# Altium integrated library Maxim Sensors.IntLib: 1172 symbols (part 54 of 61)
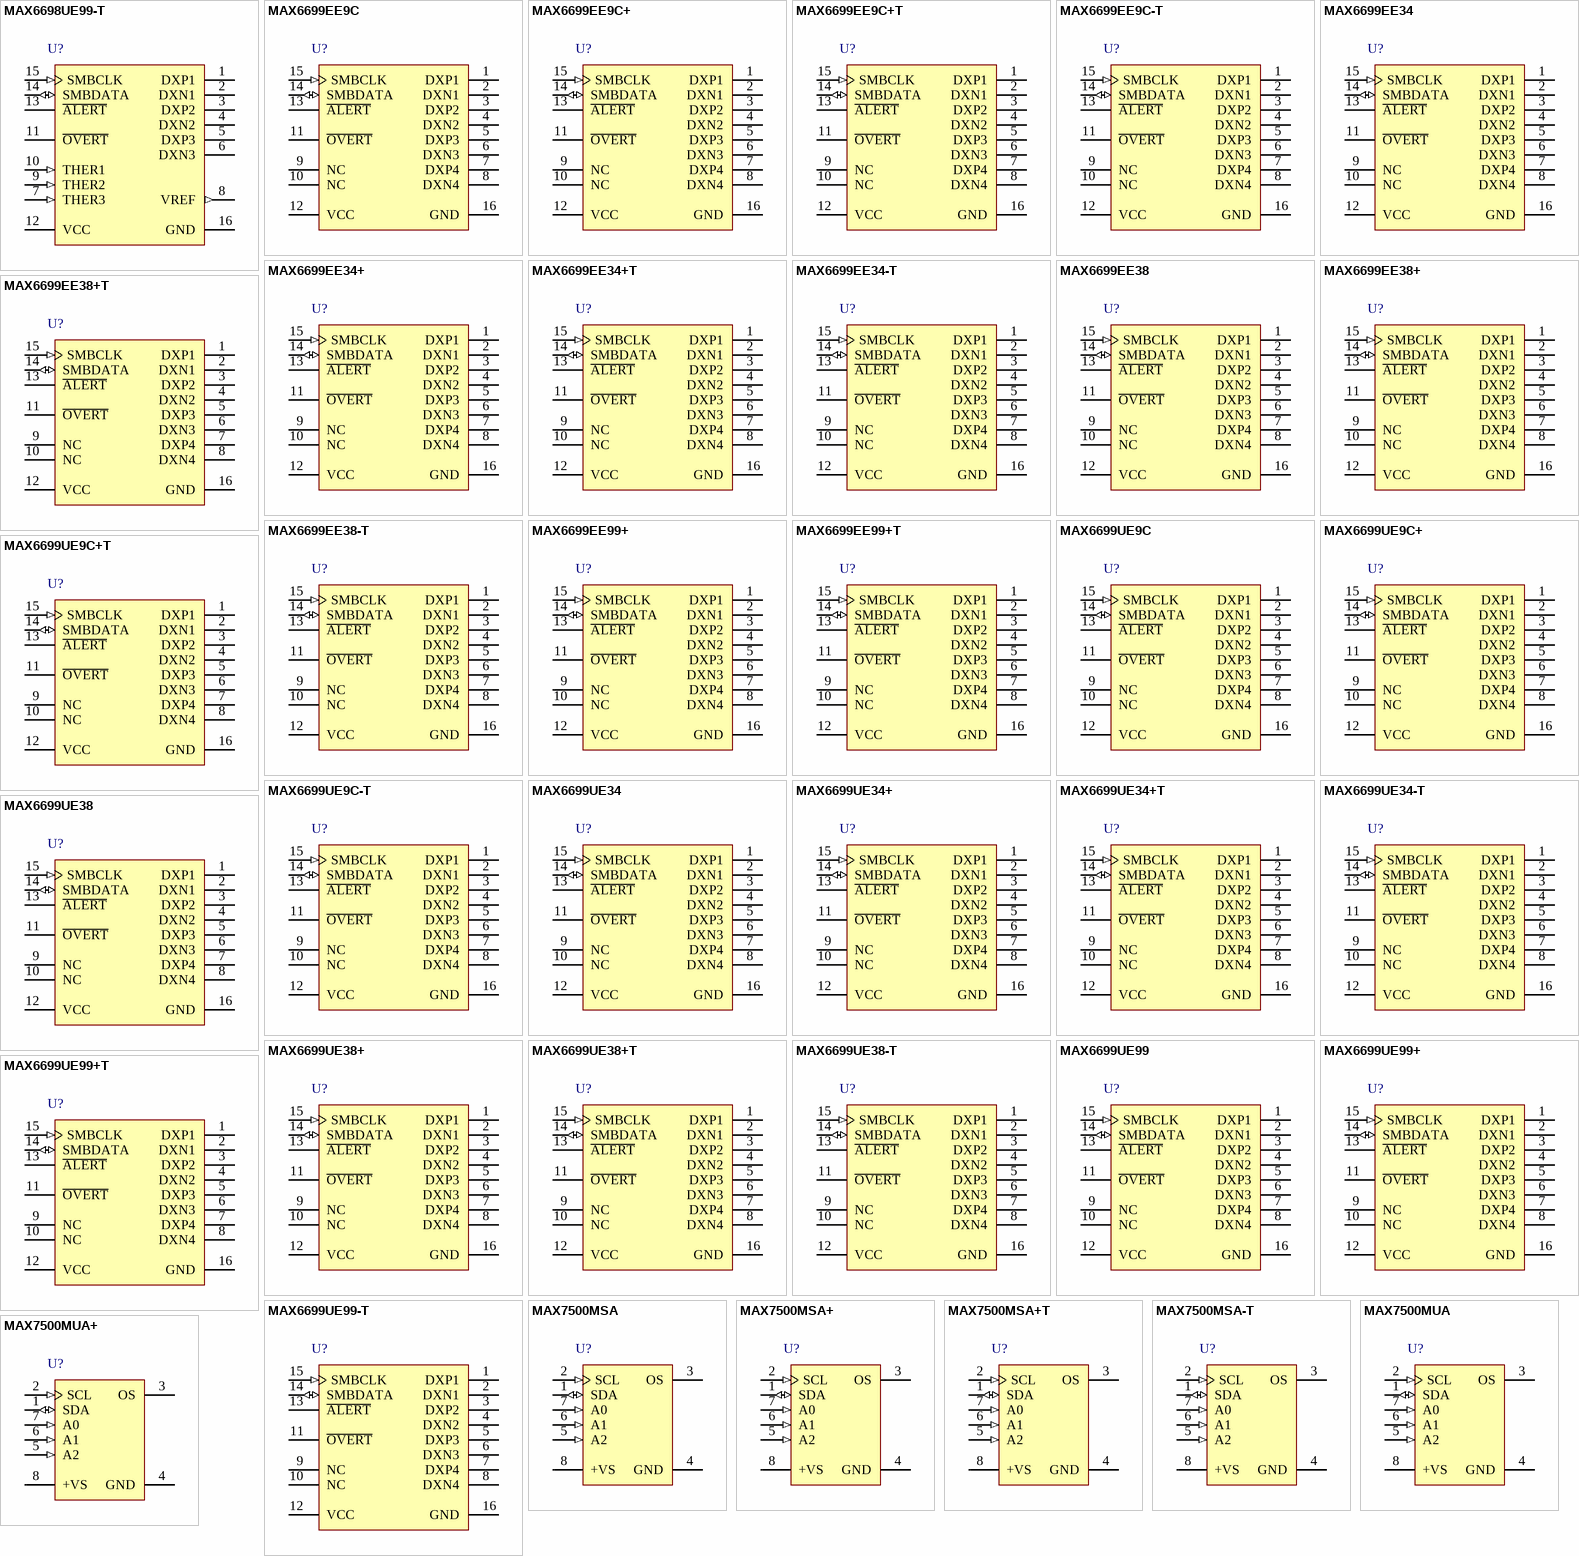
[diagram p86: symbols MAX6698UE99-T to MAX7500MUA+]

## MAX6699UE99
designator U?
Five-Channel Temperature Monitor, 11 Bits Temperature Resolution, -40 to 125 degC, 16-Pin SOP (U16-1); Generic Part Number: MAX6699; PartNumber: MAX6699UE99; Alarm Output: Alert, Overt; Functions: Dual Temperature Alarms, Multi-Channel Temperature Monitor ,Remote & Local Sensor; Interface: 2-Wire/I2C/SMBus; Parasite Pwr.: No; DatasheetVersion: Rev. 2; PackageVersion: Rev. L, 07/2010; PackageReference: U16-1; PackageDescription: 16-Pin Thin Shrink Small-Outline Package (U16-1), Body 5 x 4.4 mm, Pitch 0.65 mm; Supplier 1: Mouser; Supplier Part Number 1: N/A; Mounting Technology: Surface Mount; Code_JEDEC: MO-153; ComponentLink1Description: Manufacturer URL; ComponentLink1URL: http://www.maximintegrated.com/; ComponentLink2Description: Datasheet; ComponentLink2URL: http://datasheets.maximintegrated.com/en/ds/MAX6699.pdf; ComponentLink3Description: Package Specification; ComponentLink3URL: http://pdfserv.maximintegrated.com/package_dwgs/21-0066.PDF
footprint MAXM-U16-1_N (SOP, 16-Leads, Body 5x4.4mm, Pitch 0.65mm, IPC Medium Density)
footprint MAXM-U16-1_L (SOP, 16-Leads, Body 5x4.4mm, Pitch 0.65mm, IPC High Density)
footprint MAXM-U16-1_M (SOP, 16-Leads, Body 5x4.4mm, Pitch 0.65mm, IPC Low Density)
pins: 1 DXP1 "Combined Current Source and A/D Positive Input for Channel 1 Remote Diode. Connect to the anode of a remote-diode-connected temperature-sensing transistor. Leave floating or connect to VCC if no remote diode is used. Place a (See Datasheet)", 2 DXN1 "Cathode Input for Channel 1 Remote Diode. Connect the cathode of the channel 1 remote-diodeconnected transistor to DXN1.", 3 DXP2 "Combined Current Source and A/D Positive Input for Channel 2 Remote Diode. Connect to the anode of a remote-diode-connected temperature-sensing transistor. Leave floating or connect to VCC if no remote diode is used. Place a (See Datasheet)", 4 DXN2 "Cathode Input for Channel 2 Remote Diode. Connect the cathode of the channel 2 remote-diodeconnected transistor to DXN2.", 5 DXP3 "Combined Current Source and A/D Positive Input for Channel 3 Remote Diode. Connect to the anode of a remote-diode-connected temperature-sensing transistor. Leave floating or connect to VCC if no remote diode is used. Place a (See Datasheet)", 6 DXN3 "Cathode Input for Channel 3 Remote Diode. Connect the cathode of the channel 1 remote-diodeconnected transistor to DXN3.", 7 DXP4 "Combined Current Source and A/D Positive Input for Channel 4 Remote Diode. Connect to the anode of a remote-diode-connected temperature-sensing transistor. Leave floating or connect to VCC if no remote diode is used. Place a (See Datasheet)", 8 DXN4 "Cathode Input for Channel 4 Remote Diode. Connect the cathode of the channel 1 remote-diodeconnected transistor to DXN4.", 9 NC "No Connection. Must be connected to ground.", 10 NC "No Connection. Must be connected to ground.", 11 ~{OVERT} (oc) "Overtemperature Active-Low, Open-Drain Output. O\V\E\R\T\ asserts low when the temperature of channels 1 and 4 exceeds the programmed threshold limit.", 12 VCC (power) "Supply Voltage Input. Bypass to GND with a 0.1uF capacitor.", 13 ~{ALERT} (oc) "SMBus Alert (Interrupt), Active-Low, Open-Drain Output. A\L\E\R\T\ asserts low when the temperature of any channel exceeds the programmed A\L\E\R\T\ threshold.", 14 SMBDATA (io) "SMBus Serial-Data Input/Output. Connect to a pullup resistor.", 15 SMBCLK (in) "SMBus Serial-Clock Input. Connect to a pullup resistor.", 16 GND (power) "Ground"

## MAX6699UE99+
designator U?
Five-Channel Temperature Monitor, 11 Bits Temperature Resolution, -40 to 125 degC, 16-Pin SOP (U16+1), Pb-Free; Generic Part Number: MAX6699; PartNumber: MAX6699UE99+; Alarm Output: Alert, Overt; Functions: Dual Temperature Alarms, Multi-Channel Temperature Monitor ,Remote & Local Sensor; Interface: 2-Wire/I2C/SMBus; Parasite Pwr.: No; DatasheetVersion: Rev. 2; PackageVersion: Rev. L, 07/2010; PackageReference: U16+1; PackageDescription: 16-Pin Thin Shrink Small-Outline Package (U16+1), Body 5 x 4.4 mm, Pitch 0.65 mm; Supplier 1: Digi-Key; Supplier Part Number 1: MAX6699UE99+-ND; Supplier 2: Mouser; Supplier Part Number 2: 700-MAX6699UE99+; Mounting Technology: Surface Mount; Code_JEDEC: MO-153; ComponentLink1Description: Manufacturer URL; ComponentLink1URL: http://www.maximintegrated.com/; ComponentLink2Description: Datasheet; ComponentLink2URL: http://datasheets.maximintegrated.com/en/ds/MAX6699.pdf; ComponentLink3Description: Package Specification; ComponentLink3URL: http://pdfserv.maximintegrated.com/package_dwgs/21-0066.PDF
footprint MAXM-U16+1_N (SOP, 16-Leads, Body 5x4.4mm, Pitch 0.65mm, IPC Medium Density)
footprint MAXM-U16+1_L (SOP, 16-Leads, Body 5x4.4mm, Pitch 0.65mm, IPC High Density)
footprint MAXM-U16+1_M (SOP, 16-Leads, Body 5x4.4mm, Pitch 0.65mm, IPC Low Density)
pins: 1 DXP1 "Combined Current Source and A/D Positive Input for Channel 1 Remote Diode. Connect to the anode of a remote-diode-connected temperature-sensing transistor. Leave floating or connect to VCC if no remote diode is used. Place a (See Datasheet)", 2 DXN1 "Cathode Input for Channel 1 Remote Diode. Connect the cathode of the channel 1 remote-diodeconnected transistor to DXN1.", 3 DXP2 "Combined Current Source and A/D Positive Input for Channel 2 Remote Diode. Connect to the anode of a remote-diode-connected temperature-sensing transistor. Leave floating or connect to VCC if no remote diode is used. Place a (See Datasheet)", 4 DXN2 "Cathode Input for Channel 2 Remote Diode. Connect the cathode of the channel 2 remote-diodeconnected transistor to DXN2.", 5 DXP3 "Combined Current Source and A/D Positive Input for Channel 3 Remote Diode. Connect to the anode of a remote-diode-connected temperature-sensing transistor. Leave floating or connect to VCC if no remote diode is used. Place a (See Datasheet)", 6 DXN3 "Cathode Input for Channel 3 Remote Diode. Connect the cathode of the channel 1 remote-diodeconnected transistor to DXN3.", 7 DXP4 "Combined Current Source and A/D Positive Input for Channel 4 Remote Diode. Connect to the anode of a remote-diode-connected temperature-sensing transistor. Leave floating or connect to VCC if no remote diode is used. Place a (See Datasheet)", 8 DXN4 "Cathode Input for Channel 4 Remote Diode. Connect the cathode of the channel 1 remote-diodeconnected transistor to DXN4.", 9 NC "No Connection. Must be connected to ground.", 10 NC "No Connection. Must be connected to ground.", 11 ~{OVERT} (oc) "Overtemperature Active-Low, Open-Drain Output. O\V\E\R\T\ asserts low when the temperature of channels 1 and 4 exceeds the programmed threshold limit.", 12 VCC (power) "Supply Voltage Input. Bypass to GND with a 0.1uF capacitor.", 13 ~{ALERT} (oc) "SMBus Alert (Interrupt), Active-Low, Open-Drain Output. A\L\E\R\T\ asserts low when the temperature of any channel exceeds the programmed A\L\E\R\T\ threshold.", 14 SMBDATA (io) "SMBus Serial-Data Input/Output. Connect to a pullup resistor.", 15 SMBCLK (in) "SMBus Serial-Clock Input. Connect to a pullup resistor.", 16 GND (power) "Ground"

## MAX6699UE99+T
designator U?
Five-Channel Temperature Monitor, 11 Bits Temperature Resolution, -40 to 125 degC, 16-Pin SOP (U16+1), Pb-Free, Tape and Reel; Generic Part Number: MAX6699; PartNumber: MAX6699UE99+T; Alarm Output: Alert, Overt; Functions: Dual Temperature Alarms, Multi-Channel Temperature Monitor ,Remote & Local Sensor; Interface: 2-Wire/I2C/SMBus; Parasite Pwr.: No; DatasheetVersion: Rev. 2; PackageVersion: Rev. L, 07/2010; PackageReference: U16+1; PackageDescription: 16-Pin Thin Shrink Small-Outline Package (U16+1), Body 5 x 4.4 mm, Pitch 0.65 mm; Supplier 1: Digi-Key; Supplier Part Number 1: MAX6699UE99+T-ND; Supplier 2: Mouser; Supplier Part Number 2: 700-MAX6699UE99+T; Packing: Tape and Reel; Mounting Technology: Surface Mount; Code_JEDEC: MO-153; ComponentLink1Description: Manufacturer URL; ComponentLink1URL: http://www.maximintegrated.com/; ComponentLink2Description: Datasheet; ComponentLink2URL: http://datasheets.maximintegrated.com/en/ds/MAX6699.pdf; ComponentLink3Description: Package Specification; ComponentLink3URL: http://pdfserv.maximintegrated.com/package_dwgs/21-0066.PDF
footprint MAXM-U16+1_N (SOP, 16-Leads, Body 5x4.4mm, Pitch 0.65mm, IPC Medium Density)
footprint MAXM-U16+1_L (SOP, 16-Leads, Body 5x4.4mm, Pitch 0.65mm, IPC High Density)
footprint MAXM-U16+1_M (SOP, 16-Leads, Body 5x4.4mm, Pitch 0.65mm, IPC Low Density)
pins: 1 DXP1 "Combined Current Source and A/D Positive Input for Channel 1 Remote Diode. Connect to the anode of a remote-diode-connected temperature-sensing transistor. Leave floating or connect to VCC if no remote diode is used. Place a (See Datasheet)", 2 DXN1 "Cathode Input for Channel 1 Remote Diode. Connect the cathode of the channel 1 remote-diodeconnected transistor to DXN1.", 3 DXP2 "Combined Current Source and A/D Positive Input for Channel 2 Remote Diode. Connect to the anode of a remote-diode-connected temperature-sensing transistor. Leave floating or connect to VCC if no remote diode is used. Place a (See Datasheet)", 4 DXN2 "Cathode Input for Channel 2 Remote Diode. Connect the cathode of the channel 2 remote-diodeconnected transistor to DXN2.", 5 DXP3 "Combined Current Source and A/D Positive Input for Channel 3 Remote Diode. Connect to the anode of a remote-diode-connected temperature-sensing transistor. Leave floating or connect to VCC if no remote diode is used. Place a (See Datasheet)", 6 DXN3 "Cathode Input for Channel 3 Remote Diode. Connect the cathode of the channel 1 remote-diodeconnected transistor to DXN3.", 7 DXP4 "Combined Current Source and A/D Positive Input for Channel 4 Remote Diode. Connect to the anode of a remote-diode-connected temperature-sensing transistor. Leave floating or connect to VCC if no remote diode is used. Place a (See Datasheet)", 8 DXN4 "Cathode Input for Channel 4 Remote Diode. Connect the cathode of the channel 1 remote-diodeconnected transistor to DXN4.", 9 NC "No Connection. Must be connected to ground.", 10 NC "No Connection. Must be connected to ground.", 11 ~{OVERT} (oc) "Overtemperature Active-Low, Open-Drain Output. O\V\E\R\T\ asserts low when the temperature of channels 1 and 4 exceeds the programmed threshold limit.", 12 VCC (power) "Supply Voltage Input. Bypass to GND with a 0.1uF capacitor.", 13 ~{ALERT} (oc) "SMBus Alert (Interrupt), Active-Low, Open-Drain Output. A\L\E\R\T\ asserts low when the temperature of any channel exceeds the programmed A\L\E\R\T\ threshold.", 14 SMBDATA (io) "SMBus Serial-Data Input/Output. Connect to a pullup resistor.", 15 SMBCLK (in) "SMBus Serial-Clock Input. Connect to a pullup resistor.", 16 GND (power) "Ground"

## MAX6699UE99-T
designator U?
Five-Channel Temperature Monitor, 11 Bits Temperature Resolution, -40 to 125 degC, 16-Pin SOP (U16-1), Tape and Reel; Generic Part Number: MAX6699; PartNumber: MAX6699UE99-T; Alarm Output: Alert, Overt; Functions: Dual Temperature Alarms, Multi-Channel Temperature Monitor ,Remote & Local Sensor; Interface: 2-Wire/I2C/SMBus; Parasite Pwr.: No; DatasheetVersion: Rev. 2; PackageVersion: Rev. L, 07/2010; PackageReference: U16-1; PackageDescription: 16-Pin Thin Shrink Small-Outline Package (U16-1), Body 5 x 4.4 mm, Pitch 0.65 mm; Supplier 1: Mouser; Supplier Part Number 1: N/A; Packing: Tape and Reel; Mounting Technology: Surface Mount; Code_JEDEC: MO-153; ComponentLink1Description: Manufacturer URL; ComponentLink1URL: http://www.maximintegrated.com/; ComponentLink2Description: Datasheet; ComponentLink2URL: http://datasheets.maximintegrated.com/en/ds/MAX6699.pdf; ComponentLink3Description: Package Specification; ComponentLink3URL: http://pdfserv.maximintegrated.com/package_dwgs/21-0066.PDF
footprint MAXM-U16-1_N (SOP, 16-Leads, Body 5x4.4mm, Pitch 0.65mm, IPC Medium Density)
footprint MAXM-U16-1_L (SOP, 16-Leads, Body 5x4.4mm, Pitch 0.65mm, IPC High Density)
footprint MAXM-U16-1_M (SOP, 16-Leads, Body 5x4.4mm, Pitch 0.65mm, IPC Low Density)
pins: 1 DXP1 "Combined Current Source and A/D Positive Input for Channel 1 Remote Diode. Connect to the anode of a remote-diode-connected temperature-sensing transistor. Leave floating or connect to VCC if no remote diode is used. Place a (See Datasheet)", 2 DXN1 "Cathode Input for Channel 1 Remote Diode. Connect the cathode of the channel 1 remote-diodeconnected transistor to DXN1.", 3 DXP2 "Combined Current Source and A/D Positive Input for Channel 2 Remote Diode. Connect to the anode of a remote-diode-connected temperature-sensing transistor. Leave floating or connect to VCC if no remote diode is used. Place a (See Datasheet)", 4 DXN2 "Cathode Input for Channel 2 Remote Diode. Connect the cathode of the channel 2 remote-diodeconnected transistor to DXN2.", 5 DXP3 "Combined Current Source and A/D Positive Input for Channel 3 Remote Diode. Connect to the anode of a remote-diode-connected temperature-sensing transistor. Leave floating or connect to VCC if no remote diode is used. Place a (See Datasheet)", 6 DXN3 "Cathode Input for Channel 3 Remote Diode. Connect the cathode of the channel 1 remote-diodeconnected transistor to DXN3.", 7 DXP4 "Combined Current Source and A/D Positive Input for Channel 4 Remote Diode. Connect to the anode of a remote-diode-connected temperature-sensing transistor. Leave floating or connect to VCC if no remote diode is used. Place a (See Datasheet)", 8 DXN4 "Cathode Input for Channel 4 Remote Diode. Connect the cathode of the channel 1 remote-diodeconnected transistor to DXN4.", 9 NC "No Connection. Must be connected to ground.", 10 NC "No Connection. Must be connected to ground.", 11 ~{OVERT} (oc) "Overtemperature Active-Low, Open-Drain Output. O\V\E\R\T\ asserts low when the temperature of channels 1 and 4 exceeds the programmed threshold limit.", 12 VCC (power) "Supply Voltage Input. Bypass to GND with a 0.1uF capacitor.", 13 ~{ALERT} (oc) "SMBus Alert (Interrupt), Active-Low, Open-Drain Output. A\L\E\R\T\ asserts low when the temperature of any channel exceeds the programmed A\L\E\R\T\ threshold.", 14 SMBDATA (io) "SMBus Serial-Data Input/Output. Connect to a pullup resistor.", 15 SMBCLK (in) "SMBus Serial-Clock Input. Connect to a pullup resistor.", 16 GND (power) "Ground"

## MAX7500MSA
designator U?
Digital Temperature Sensor with Bus Lock-up Protection, -55 to 125 degC, 8-Pin SOIC (S8-2); Generic Part Number: MAX7500; PartNumber: MAX7500MSA; Interface: 2-Wire/I2C/SMBus; Multi Droppable: Yes; Parasite Pwr.: No; DatasheetVersion: Rev. 4; PackageVersion: Rev. D, 10/2012; PackageReference: S8-2; PackageDescription: 8-Pin Small-Outline IC, Narrow (0.15in) (S8-2), Body 4.90 x 3.90 mm, Pitch 1.27 mm; Supplier 1: Mouser; Supplier Part Number 1: N/A; Mounting Technology: Surface Mount; Code_JEDEC: MS012; ComponentLink1Description: Manufacturer URL; ComponentLink1URL: http://www.maximintegrated.com/; ComponentLink2Description: Datasheet; ComponentLink2URL: http://datasheets.maximintegrated.com/en/ds/MAX7500-MAX7504.pdf; ComponentLink3Description: Package Specification; ComponentLink3URL: http://pdfserv.maximintegrated.com/package_dwgs/21-0041.PDF
footprint MAXM-S8-2_N (SOIC, 8-Leads, Body 4.90x3.90mm, Pitch 1.27mm, IPC Medium Density)
footprint MAXM-S8-2_L (SOIC, 8-Leads, Body 4.90x3.90mm, Pitch 1.27mm, IPC High Density)
footprint MAXM-S8-2_M (SOIC, 8-Leads, Body 4.90x3.90mm, Pitch 1.27mm, IPC Low Density)
pins: 1 SDA (io) "Serial Data Input/Output Line. Open drain. Connect SDA to a pullup resistor.", 2 SCL (in) "Serial Data Clock Input. Open drain. Connect SCL to a pullup resistor.", 3 OS (oc) "Overtemperature Shutdown Output. Open drain. Connect OS to a pullup resistor.", 4 GND (power) "Ground", 5 A2 (in) "2-Wire Interface Address Input. Connect A2 to GND or +VS to set the desired I2C bus address. Do not leave unconnected (see Table 1).", 6 A1 (in) "2-Wire Interface Address Input. Connect A1 to GND or +VS to set the desired I2C bus address. Do not leave unconnected (see Table 1).", 7 A0 (in) "2-Wire Interface Address Input. Connect A0 to GND or +VS to set the desired I2C bus address. Do not leave unconnected (see Table 1).", 8 +VS (power) "Positive Supply Voltage Input. Bypass to GND with a 0.1uF bypass capacitor."

## MAX7500MSA+
designator U?
Digital Temperature Sensor with Bus Lock-up Protection, -55 to 125 degC, 8-Pin SOIC (S8+2), Pb-Free; Generic Part Number: MAX7500; PartNumber: MAX7500MSA+; Interface: 2-Wire/I2C/SMBus; Multi Droppable: Yes; Parasite Pwr.: No; DatasheetVersion: Rev. 4; PackageVersion: Rev. D, 10/2012; PackageReference: S8+2; PackageDescription: 8-Pin Small-Outline IC, Narrow (0.15in) (S8+2), Body 4.90 x 3.90 mm, Pitch 1.27 mm; Supplier 1: Digi-Key; Supplier Part Number 1: MAX7500MSA+-ND; Supplier 2: Mouser; Supplier Part Number 2: 700-MAX7500MSA; Mounting Technology: Surface Mount; Code_JEDEC: MS012; ComponentLink1Description: Manufacturer URL; ComponentLink1URL: http://www.maximintegrated.com/; ComponentLink2Description: Datasheet; ComponentLink2URL: http://datasheets.maximintegrated.com/en/ds/MAX7500-MAX7504.pdf; ComponentLink3Description: Package Specification; ComponentLink3URL: http://pdfserv.maximintegrated.com/package_dwgs/21-0041.PDF
footprint MAXM-S8+2_N (SOIC, 8-Leads, Body 4.90x3.90mm, Pitch 1.27mm, IPC Medium Density)
footprint MAXM-S8+2_L (SOIC, 8-Leads, Body 4.90x3.90mm, Pitch 1.27mm, IPC High Density)
footprint MAXM-S8+2_M (SOIC, 8-Leads, Body 4.90x3.90mm, Pitch 1.27mm, IPC Low Density)
pins: 1 SDA (io) "Serial Data Input/Output Line. Open drain. Connect SDA to a pullup resistor.", 2 SCL (in) "Serial Data Clock Input. Open drain. Connect SCL to a pullup resistor.", 3 OS (oc) "Overtemperature Shutdown Output. Open drain. Connect OS to a pullup resistor.", 4 GND (power) "Ground", 5 A2 (in) "2-Wire Interface Address Input. Connect A2 to GND or +VS to set the desired I2C bus address. Do not leave unconnected (see Table 1).", 6 A1 (in) "2-Wire Interface Address Input. Connect A1 to GND or +VS to set the desired I2C bus address. Do not leave unconnected (see Table 1).", 7 A0 (in) "2-Wire Interface Address Input. Connect A0 to GND or +VS to set the desired I2C bus address. Do not leave unconnected (see Table 1).", 8 +VS (power) "Positive Supply Voltage Input. Bypass to GND with a 0.1uF bypass capacitor."

## MAX7500MSA+T
designator U?
Digital Temperature Sensor with Bus Lock-up Protection, -55 to 125 degC, 8-Pin SOIC (S8+2), Pb-Free, Tape and Reel; Generic Part Number: MAX7500; PartNumber: MAX7500MSA+T; Interface: 2-Wire/I2C/SMBus; Multi Droppable: Yes; Parasite Pwr.: No; DatasheetVersion: Rev. 4; PackageVersion: Rev. D, 10/2012; PackageReference: S8+2; PackageDescription: 8-Pin Small-Outline IC, Narrow (0.15in) (S8+2), Body 4.90 x 3.90 mm, Pitch 1.27 mm; Supplier 1: Digi-Key; Supplier Part Number 1: MAX7500MSA+TTR-ND; Supplier 2: Digi-Key; Supplier Part Number 2: MAX7500MSA+TCT-ND; Supplier 3: Digi-Key; Supplier Part Number 3: MAX7500MSA+TDKR-ND; Supplier 4: Mouser; Supplier Part Number 4: 700-MAX7500MSAT; Packing: Tape and Reel; Mounting Technology: Surface Mount; Code_JEDEC: MS012; ComponentLink1Description: Manufacturer URL; ComponentLink1URL: http://www.maximintegrated.com/; ComponentLink2Description: Datasheet; ComponentLink2URL: http://datasheets.maximintegrated.com/en/ds/MAX7500-MAX7504.pdf; ComponentLink3Description: Package Specification; ComponentLink3URL: http://pdfserv.maximintegrated.com/package_dwgs/21-0041.PDF
footprint MAXM-S8+2_N (SOIC, 8-Leads, Body 4.90x3.90mm, Pitch 1.27mm, IPC Medium Density)
footprint MAXM-S8+2_L (SOIC, 8-Leads, Body 4.90x3.90mm, Pitch 1.27mm, IPC High Density)
footprint MAXM-S8+2_M (SOIC, 8-Leads, Body 4.90x3.90mm, Pitch 1.27mm, IPC Low Density)
pins: 1 SDA (io) "Serial Data Input/Output Line. Open drain. Connect SDA to a pullup resistor.", 2 SCL (in) "Serial Data Clock Input. Open drain. Connect SCL to a pullup resistor.", 3 OS (oc) "Overtemperature Shutdown Output. Open drain. Connect OS to a pullup resistor.", 4 GND (power) "Ground", 5 A2 (in) "2-Wire Interface Address Input. Connect A2 to GND or +VS to set the desired I2C bus address. Do not leave unconnected (see Table 1).", 6 A1 (in) "2-Wire Interface Address Input. Connect A1 to GND or +VS to set the desired I2C bus address. Do not leave unconnected (see Table 1).", 7 A0 (in) "2-Wire Interface Address Input. Connect A0 to GND or +VS to set the desired I2C bus address. Do not leave unconnected (see Table 1).", 8 +VS (power) "Positive Supply Voltage Input. Bypass to GND with a 0.1uF bypass capacitor."

## MAX7500MSA-T
designator U?
Digital Temperature Sensor with Bus Lock-up Protection, -55 to 125 degC, 8-Pin SOIC (S8-2), Tape and Reel; Generic Part Number: MAX7500; PartNumber: MAX7500MSA-T; Interface: 2-Wire/I2C/SMBus; Multi Droppable: Yes; Parasite Pwr.: No; DatasheetVersion: Rev. 4; PackageVersion: Rev. D, 10/2012; PackageReference: S8-2; PackageDescription: 8-Pin Small-Outline IC, Narrow (0.15in) (S8-2), Body 4.90 x 3.90 mm, Pitch 1.27 mm; Supplier 1: Mouser; Supplier Part Number 1: N/A; Packing: Tape and Reel; Mounting Technology: Surface Mount; Code_JEDEC: MS012; ComponentLink1Description: Manufacturer URL; ComponentLink1URL: http://www.maximintegrated.com/; ComponentLink2Description: Datasheet; ComponentLink2URL: http://datasheets.maximintegrated.com/en/ds/MAX7500-MAX7504.pdf; ComponentLink3Description: Package Specification; ComponentLink3URL: http://pdfserv.maximintegrated.com/package_dwgs/21-0041.PDF
footprint MAXM-S8-2_N (SOIC, 8-Leads, Body 4.90x3.90mm, Pitch 1.27mm, IPC Medium Density)
footprint MAXM-S8-2_L (SOIC, 8-Leads, Body 4.90x3.90mm, Pitch 1.27mm, IPC High Density)
footprint MAXM-S8-2_M (SOIC, 8-Leads, Body 4.90x3.90mm, Pitch 1.27mm, IPC Low Density)
pins: 1 SDA (io) "Serial Data Input/Output Line. Open drain. Connect SDA to a pullup resistor.", 2 SCL (in) "Serial Data Clock Input. Open drain. Connect SCL to a pullup resistor.", 3 OS (oc) "Overtemperature Shutdown Output. Open drain. Connect OS to a pullup resistor.", 4 GND (power) "Ground", 5 A2 (in) "2-Wire Interface Address Input. Connect A2 to GND or +VS to set the desired I2C bus address. Do not leave unconnected (see Table 1).", 6 A1 (in) "2-Wire Interface Address Input. Connect A1 to GND or +VS to set the desired I2C bus address. Do not leave unconnected (see Table 1).", 7 A0 (in) "2-Wire Interface Address Input. Connect A0 to GND or +VS to set the desired I2C bus address. Do not leave unconnected (see Table 1).", 8 +VS (power) "Positive Supply Voltage Input. Bypass to GND with a 0.1uF bypass capacitor."

## MAX7500MUA
designator U?
Digital Temperature Sensor with Bus Lock-up Protection, -55 to 125 degC, 8-Pin SOP (U8-1); Generic Part Number: MAX7500; PartNumber: MAX7500MUA; Interface: 2-Wire/I2C/SMBus; Multi Droppable: Yes; Parasite Pwr.: No; DatasheetVersion: Rev. 4; PackageVersion: Rev. L, 08/2009; PackageReference: U8-1; PackageDescription: 8-Pin Micro-MAX, Thin Shrink Small-Outline (U8-1), Body 3 x 3 mm, Pitch 0.65mm; Supplier 1: Mouser; Supplier Part Number 1: N/A; Mounting Technology: Surface Mount; Code_JEDEC: MO-187; ComponentLink1Description: Manufacturer URL; ComponentLink1URL: http://www.maximintegrated.com/; ComponentLink2Description: Datasheet; ComponentLink2URL: http://datasheets.maximintegrated.com/en/ds/MAX7500-MAX7504.pdf; ComponentLink3Description: Package Specification; ComponentLink3URL: http://pdfserv.maximintegrated.com/package_dwgs/21-0036.PDF
footprint MAXM-U8-1_N (SOP, 8-Leads, Body 3x3mm, Pitch 0.65mm, IPC Medium Density)
footprint MAXM-U8-1_L (SOP, 8-Leads, Body 3x3mm, Pitch 0.65mm, IPC High Density)
footprint MAXM-U8-1_M (SOP, 8-Leads, Body 3x3mm, Pitch 0.65mm, IPC Low Density)
pins: 1 SDA (io) "Serial Data Input/Output Line. Open drain. Connect SDA to a pullup resistor.", 2 SCL (in) "Serial Data Clock Input. Open drain. Connect SCL to a pullup resistor.", 3 OS (oc) "Overtemperature Shutdown Output. Open drain. Connect OS to a pullup resistor.", 4 GND (power) "Ground", 5 A2 (in) "2-Wire Interface Address Input. Connect A2 to GND or +VS to set the desired I2C bus address. Do not leave unconnected (see Table 1).", 6 A1 (in) "2-Wire Interface Address Input. Connect A1 to GND or +VS to set the desired I2C bus address. Do not leave unconnected (see Table 1).", 7 A0 (in) "2-Wire Interface Address Input. Connect A0 to GND or +VS to set the desired I2C bus address. Do not leave unconnected (see Table 1).", 8 +VS (power) "Positive Supply Voltage Input. Bypass to GND with a 0.1uF bypass capacitor."

## MAX7500MUA+
designator U?
Digital Temperature Sensor with Bus Lock-up Protection, -55 to 125 degC, 8-Pin SOP (U8+1), Pb-Free; Generic Part Number: MAX7500; PartNumber: MAX7500MUA+; Interface: 2-Wire/I2C/SMBus; Multi Droppable: Yes; Parasite Pwr.: No; DatasheetVersion: Rev. 4; PackageVersion: Rev. L, 08/2009; PackageReference: U8+1; PackageDescription: 8-Pin Micro-MAX, Thin Shrink Small-Outline (U8+1), Body 3 x 3 mm, Pitch 0.65 mm; Supplier 1: Digi-Key; Supplier Part Number 1: MAX7500MUA+-ND; Supplier 2: Mouser; Supplier Part Number 2: 700-MAX7500MUA; Mounting Technology: Surface Mount; Code_JEDEC: MO-187; ComponentLink1Description: Manufacturer URL; ComponentLink1URL: http://www.maximintegrated.com/; ComponentLink2Description: Datasheet; ComponentLink2URL: http://datasheets.maximintegrated.com/en/ds/MAX7500-MAX7504.pdf; ComponentLink3Description: Package Specification; ComponentLink3URL: http://pdfserv.maximintegrated.com/package_dwgs/21-0036.PDF
footprint MAXM-U8+1_N (SOP, 8-Leads, Body 3x3mm, Pitch 0.65mm, IPC Medium Density)
footprint MAXM-U8+1_L (SOP, 8-Leads, Body 3x3mm, Pitch 0.65mm, IPC High Density)
footprint MAXM-U8+1_M (SOP, 8-Leads, Body 3x3mm, Pitch 0.65mm, IPC Low Density)
pins: 1 SDA (io) "Serial Data Input/Output Line. Open drain. Connect SDA to a pullup resistor.", 2 SCL (in) "Serial Data Clock Input. Open drain. Connect SCL to a pullup resistor.", 3 OS (oc) "Overtemperature Shutdown Output. Open drain. Connect OS to a pullup resistor.", 4 GND (power) "Ground", 5 A2 (in) "2-Wire Interface Address Input. Connect A2 to GND or +VS to set the desired I2C bus address. Do not leave unconnected (see Table 1).", 6 A1 (in) "2-Wire Interface Address Input. Connect A1 to GND or +VS to set the desired I2C bus address. Do not leave unconnected (see Table 1).", 7 A0 (in) "2-Wire Interface Address Input. Connect A0 to GND or +VS to set the desired I2C bus address. Do not leave unconnected (see Table 1).", 8 +VS (power) "Positive Supply Voltage Input. Bypass to GND with a 0.1uF bypass capacitor."

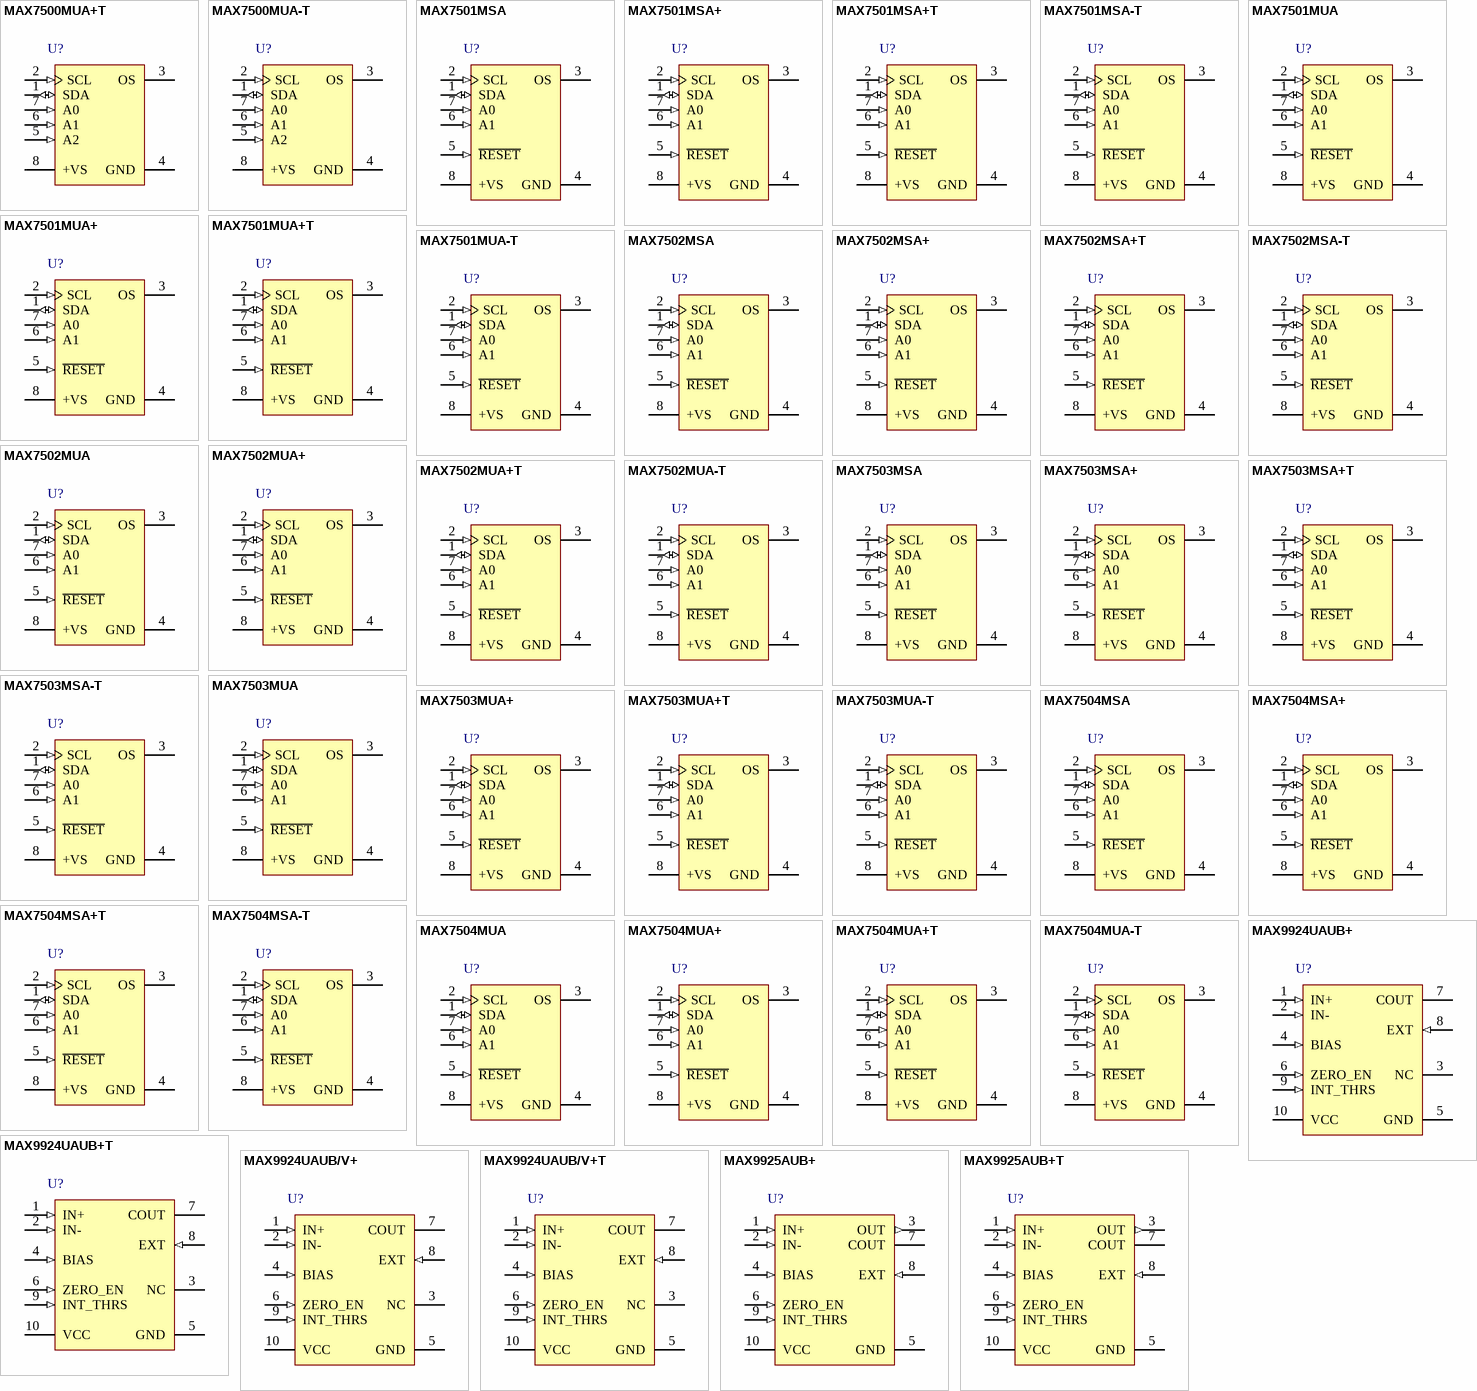
[diagram p29: symbols MAX7500MUA+T to MAX9925AUB+T]

## MAX7500MUA+T
designator U?
Digital Temperature Sensor with Bus Lock-up Protection, -55 to 125 degC, 8-Pin SOP (U8+1), Pb-Free, Tape and Reel; Generic Part Number: MAX7500; PartNumber: MAX7500MUA+T; Interface: 2-Wire/I2C/SMBus; Multi Droppable: Yes; Parasite Pwr.: No; DatasheetVersion: Rev. 4; PackageVersion: Rev. L, 08/2009; PackageReference: U8+1; PackageDescription: 8-Pin Micro-MAX, Thin Shrink Small-Outline (U8+1), Body 3 x 3 mm, Pitch 0.65 mm; Supplier 1: Digi-Key; Supplier Part Number 1: MAX7500MUA+TTR-ND; Supplier 2: Digi-Key; Supplier Part Number 2: MAX7500MUA+TCT-ND; Supplier 3: Digi-Key; Supplier Part Number 3: MAX7500MUA+TDKR-ND; Supplier 4: Mouser; Supplier Part Number 4: 700-MAX7500MUAT; Packing: Tape and Reel; Mounting Technology: Surface Mount; Code_JEDEC: MO-187; ComponentLink1Description: Manufacturer URL; ComponentLink1URL: http://www.maximintegrated.com/; ComponentLink2Description: Datasheet; ComponentLink2URL: http://datasheets.maximintegrated.com/en/ds/MAX7500-MAX7504.pdf; ComponentLink3Description: Package Specification; ComponentLink3URL: http://pdfserv.maximintegrated.com/package_dwgs/21-0036.PDF
footprint MAXM-U8+1_N (SOP, 8-Leads, Body 3x3mm, Pitch 0.65mm, IPC Medium Density)
footprint MAXM-U8+1_L (SOP, 8-Leads, Body 3x3mm, Pitch 0.65mm, IPC High Density)
footprint MAXM-U8+1_M (SOP, 8-Leads, Body 3x3mm, Pitch 0.65mm, IPC Low Density)
pins: 1 SDA (io) "Serial Data Input/Output Line. Open drain. Connect SDA to a pullup resistor.", 2 SCL (in) "Serial Data Clock Input. Open drain. Connect SCL to a pullup resistor.", 3 OS (oc) "Overtemperature Shutdown Output. Open drain. Connect OS to a pullup resistor.", 4 GND (power) "Ground", 5 A2 (in) "2-Wire Interface Address Input. Connect A2 to GND or +VS to set the desired I2C bus address. Do not leave unconnected (see Table 1).", 6 A1 (in) "2-Wire Interface Address Input. Connect A1 to GND or +VS to set the desired I2C bus address. Do not leave unconnected (see Table 1).", 7 A0 (in) "2-Wire Interface Address Input. Connect A0 to GND or +VS to set the desired I2C bus address. Do not leave unconnected (see Table 1).", 8 +VS (power) "Positive Supply Voltage Input. Bypass to GND with a 0.1uF bypass capacitor."

## MAX7500MUA-T
designator U?
Digital Temperature Sensor with Bus Lock-up Protection, -55 to 125 degC, 8-Pin SOP (U8-1), Tape and Reel; Generic Part Number: MAX7500; PartNumber: MAX7500MUA-T; Interface: 2-Wire/I2C/SMBus; Multi Droppable: Yes; Parasite Pwr.: No; DatasheetVersion: Rev. 4; PackageVersion: Rev. L, 08/2009; PackageReference: U8-1; PackageDescription: 8-Pin Micro-MAX, Thin Shrink Small-Outline (U8-1), Body 3 x 3 mm, Pitch 0.65mm; Supplier 1: Mouser; Supplier Part Number 1: N/A; Packing: Tape and Reel; Mounting Technology: Surface Mount; Code_JEDEC: MO-187; ComponentLink1Description: Manufacturer URL; ComponentLink1URL: http://www.maximintegrated.com/; ComponentLink2Description: Datasheet; ComponentLink2URL: http://datasheets.maximintegrated.com/en/ds/MAX7500-MAX7504.pdf; ComponentLink3Description: Package Specification; ComponentLink3URL: http://pdfserv.maximintegrated.com/package_dwgs/21-0036.PDF
footprint MAXM-U8-1_N (SOP, 8-Leads, Body 3x3mm, Pitch 0.65mm, IPC Medium Density)
footprint MAXM-U8-1_L (SOP, 8-Leads, Body 3x3mm, Pitch 0.65mm, IPC High Density)
footprint MAXM-U8-1_M (SOP, 8-Leads, Body 3x3mm, Pitch 0.65mm, IPC Low Density)
pins: 1 SDA (io) "Serial Data Input/Output Line. Open drain. Connect SDA to a pullup resistor.", 2 SCL (in) "Serial Data Clock Input. Open drain. Connect SCL to a pullup resistor.", 3 OS (oc) "Overtemperature Shutdown Output. Open drain. Connect OS to a pullup resistor.", 4 GND (power) "Ground", 5 A2 (in) "2-Wire Interface Address Input. Connect A2 to GND or +VS to set the desired I2C bus address. Do not leave unconnected (see Table 1).", 6 A1 (in) "2-Wire Interface Address Input. Connect A1 to GND or +VS to set the desired I2C bus address. Do not leave unconnected (see Table 1).", 7 A0 (in) "2-Wire Interface Address Input. Connect A0 to GND or +VS to set the desired I2C bus address. Do not leave unconnected (see Table 1).", 8 +VS (power) "Positive Supply Voltage Input. Bypass to GND with a 0.1uF bypass capacitor."

## MAX7501MSA
designator U?
Digital Temperature Sensor and Thermal Watchdog, 11 Bits Temperature Resolution, -55 to 125 degC, 8-Pin SOIC (S8-2); Generic Part Number: MAX7501; PartNumber: MAX7501MSA; Alarm Output: Overt; Functions: Standalone Thermostat; Interface: 2-Wire/I2C/SMBus; Multi Droppable: Yes; Parasite Pwr.: No; DatasheetVersion: Rev. 4; PackageVersion: Rev. D, 10/2012; PackageReference: S8-2; PackageDescription: 8-Pin Small-Outline IC, Narrow (0.15in) (S8-2), Body 4.90 x 3.90 mm, Pitch 1.27 mm; Supplier 1: Mouser; Supplier Part Number 1: N/A; Mounting Technology: Surface Mount; Code_JEDEC: MS012; ComponentLink1Description: Manufacturer URL; ComponentLink1URL: http://www.maximintegrated.com/; ComponentLink2Description: Datasheet; ComponentLink2URL: http://datasheets.maximintegrated.com/en/ds/MAX7500-MAX7504.pdf; ComponentLink3Description: Package Specification; ComponentLink3URL: http://pdfserv.maximintegrated.com/package_dwgs/21-0041.PDF
footprint MAXM-S8-2_N (SOIC, 8-Leads, Body 4.90x3.90mm, Pitch 1.27mm, IPC Medium Density)
footprint MAXM-S8-2_L (SOIC, 8-Leads, Body 4.90x3.90mm, Pitch 1.27mm, IPC High Density)
footprint MAXM-S8-2_M (SOIC, 8-Leads, Body 4.90x3.90mm, Pitch 1.27mm, IPC Low Density)
pins: 1 SDA (io) "Serial Data Input/Output Line. Open drain. Connect SDA to a pullup resistor.", 2 SCL (in) "Serial Data Clock Input. Open drain. Connect SCL to a pullup resistor.", 3 OS (oc) "Overtemperature Shutdown Output. Open drain. Connect OS to a pullup resistor.", 4 GND (power) "Ground", 5 ~{RESET} (in) "Active-Low Reset Input. Pull R\E\S\E\T\ low for longer than the minimum reset pulse width to reset the I2C bus and all internal registers to their POR values.", 6 A1 (in) "2-Wire Interface Address Input. Connect A1 to GND or +VS to set the desired I2C bus address. Do not leave unconnected (see Table 1).", 7 A0 (in) "2-Wire Interface Address Input. Connect A0 to GND or +VS to set the desired I2C bus address. Do not leave unconnected (see Table 1).", 8 +VS (power) "Positive Supply Voltage Input. Bypass to GND with a 0.1uF bypass capacitor."

## MAX7501MSA+
designator U?
Digital Temperature Sensor and Thermal Watchdog, 11 Bits Temperature Resolution, -55 to 125 degC, 8-Pin SOIC (S8+2), Pb-Free; Generic Part Number: MAX7501; PartNumber: MAX7501MSA+; Alarm Output: Overt; Functions: Standalone Thermostat; Interface: 2-Wire/I2C/SMBus; Multi Droppable: Yes; Parasite Pwr.: No; DatasheetVersion: Rev. 4; PackageVersion: Rev. D, 10/2012; PackageReference: S8+2; PackageDescription: 8-Pin Small-Outline IC, Narrow (0.15in) (S8+2), Body 4.90 x 3.90 mm, Pitch 1.27 mm; Supplier 1: Digi-Key; Supplier Part Number 1: MAX7501MSA+-ND; Supplier 2: Mouser; Supplier Part Number 2: 700-MAX7501MSA; Mounting Technology: Surface Mount; Code_JEDEC: MS012; ComponentLink1Description: Manufacturer URL; ComponentLink1URL: http://www.maximintegrated.com/; ComponentLink2Description: Datasheet; ComponentLink2URL: http://datasheets.maximintegrated.com/en/ds/MAX7500-MAX7504.pdf; ComponentLink3Description: Package Specification; ComponentLink3URL: http://pdfserv.maximintegrated.com/package_dwgs/21-0041.PDF
footprint MAXM-S8+2_N (SOIC, 8-Leads, Body 4.90x3.90mm, Pitch 1.27mm, IPC Medium Density)
footprint MAXM-S8+2_L (SOIC, 8-Leads, Body 4.90x3.90mm, Pitch 1.27mm, IPC High Density)
footprint MAXM-S8+2_M (SOIC, 8-Leads, Body 4.90x3.90mm, Pitch 1.27mm, IPC Low Density)
pins: 1 SDA (io) "Serial Data Input/Output Line. Open drain. Connect SDA to a pullup resistor.", 2 SCL (in) "Serial Data Clock Input. Open drain. Connect SCL to a pullup resistor.", 3 OS (oc) "Overtemperature Shutdown Output. Open drain. Connect OS to a pullup resistor.", 4 GND (power) "Ground", 5 ~{RESET} (in) "Active-Low Reset Input. Pull R\E\S\E\T\ low for longer than the minimum reset pulse width to reset the I2C bus and all internal registers to their POR values.", 6 A1 (in) "2-Wire Interface Address Input. Connect A1 to GND or +VS to set the desired I2C bus address. Do not leave unconnected (see Table 1).", 7 A0 (in) "2-Wire Interface Address Input. Connect A0 to GND or +VS to set the desired I2C bus address. Do not leave unconnected (see Table 1).", 8 +VS (power) "Positive Supply Voltage Input. Bypass to GND with a 0.1uF bypass capacitor."

## MAX7501MSA+T
designator U?
Digital Temperature Sensor and Thermal Watchdog, 11 Bits Temperature Resolution, -55 to 125 degC, 8-Pin SOIC (S8+2), Pb-Free, Tape and Reel; Generic Part Number: MAX7501; PartNumber: MAX7501MSA+T; Alarm Output: Overt; Functions: Standalone Thermostat; Interface: 2-Wire/I2C/SMBus; Multi Droppable: Yes; Parasite Pwr.: No; DatasheetVersion: Rev. 4; PackageVersion: Rev. D, 10/2012; PackageReference: S8+2; PackageDescription: 8-Pin Small-Outline IC, Narrow (0.15in) (S8+2), Body 4.90 x 3.90 mm, Pitch 1.27 mm; Supplier 1: Digi-Key; Supplier Part Number 1: MAX7501MSA+T-ND; Supplier 2: Mouser; Supplier Part Number 2: 700-MAX7501MSAT; Packing: Tape and Reel; Mounting Technology: Surface Mount; Code_JEDEC: MS012; ComponentLink1Description: Manufacturer URL; ComponentLink1URL: http://www.maximintegrated.com/; ComponentLink2Description: Datasheet; ComponentLink2URL: http://datasheets.maximintegrated.com/en/ds/MAX7500-MAX7504.pdf; ComponentLink3Description: Package Specification; ComponentLink3URL: http://pdfserv.maximintegrated.com/package_dwgs/21-0041.PDF
footprint MAXM-S8+2_N (SOIC, 8-Leads, Body 4.90x3.90mm, Pitch 1.27mm, IPC Medium Density)
footprint MAXM-S8+2_L (SOIC, 8-Leads, Body 4.90x3.90mm, Pitch 1.27mm, IPC High Density)
footprint MAXM-S8+2_M (SOIC, 8-Leads, Body 4.90x3.90mm, Pitch 1.27mm, IPC Low Density)
pins: 1 SDA (io) "Serial Data Input/Output Line. Open drain. Connect SDA to a pullup resistor.", 2 SCL (in) "Serial Data Clock Input. Open drain. Connect SCL to a pullup resistor.", 3 OS (oc) "Overtemperature Shutdown Output. Open drain. Connect OS to a pullup resistor.", 4 GND (power) "Ground", 5 ~{RESET} (in) "Active-Low Reset Input. Pull R\E\S\E\T\ low for longer than the minimum reset pulse width to reset the I2C bus and all internal registers to their POR values.", 6 A1 (in) "2-Wire Interface Address Input. Connect A1 to GND or +VS to set the desired I2C bus address. Do not leave unconnected (see Table 1).", 7 A0 (in) "2-Wire Interface Address Input. Connect A0 to GND or +VS to set the desired I2C bus address. Do not leave unconnected (see Table 1).", 8 +VS (power) "Positive Supply Voltage Input. Bypass to GND with a 0.1uF bypass capacitor."

## MAX7501MSA-T
designator U?
Digital Temperature Sensor and Thermal Watchdog, 11 Bits Temperature Resolution, -55 to 125 degC, 8-Pin SOIC (S8-2), Tape and Reel; Generic Part Number: MAX7501; PartNumber: MAX7501MSA-T; Alarm Output: Overt; Functions: Standalone Thermostat; Interface: 2-Wire/I2C/SMBus; Multi Droppable: Yes; Parasite Pwr.: No; DatasheetVersion: Rev. 4; PackageVersion: Rev. D, 10/2012; PackageReference: S8-2; PackageDescription: 8-Pin Small-Outline IC, Narrow (0.15in) (S8-2), Body 4.90 x 3.90 mm, Pitch 1.27 mm; Supplier 1: Mouser; Supplier Part Number 1: N/A; Packing: Tape and Reel; Mounting Technology: Surface Mount; Code_JEDEC: MS012; ComponentLink1Description: Manufacturer URL; ComponentLink1URL: http://www.maximintegrated.com/; ComponentLink2Description: Datasheet; ComponentLink2URL: http://datasheets.maximintegrated.com/en/ds/MAX7500-MAX7504.pdf; ComponentLink3Description: Package Specification; ComponentLink3URL: http://pdfserv.maximintegrated.com/package_dwgs/21-0041.PDF
footprint MAXM-S8-2_N (SOIC, 8-Leads, Body 4.90x3.90mm, Pitch 1.27mm, IPC Medium Density)
footprint MAXM-S8-2_L (SOIC, 8-Leads, Body 4.90x3.90mm, Pitch 1.27mm, IPC High Density)
footprint MAXM-S8-2_M (SOIC, 8-Leads, Body 4.90x3.90mm, Pitch 1.27mm, IPC Low Density)
pins: 1 SDA (io) "Serial Data Input/Output Line. Open drain. Connect SDA to a pullup resistor.", 2 SCL (in) "Serial Data Clock Input. Open drain. Connect SCL to a pullup resistor.", 3 OS (oc) "Overtemperature Shutdown Output. Open drain. Connect OS to a pullup resistor.", 4 GND (power) "Ground", 5 ~{RESET} (in) "Active-Low Reset Input. Pull R\E\S\E\T\ low for longer than the minimum reset pulse width to reset the I2C bus and all internal registers to their POR values.", 6 A1 (in) "2-Wire Interface Address Input. Connect A1 to GND or +VS to set the desired I2C bus address. Do not leave unconnected (see Table 1).", 7 A0 (in) "2-Wire Interface Address Input. Connect A0 to GND or +VS to set the desired I2C bus address. Do not leave unconnected (see Table 1).", 8 +VS (power) "Positive Supply Voltage Input. Bypass to GND with a 0.1uF bypass capacitor."

## MAX7501MUA
designator U?
Digital Temperature Sensor and Thermal Watchdog, 11 Bits Temperature Resolution, -55 to 125 degC, 8-Pin SOP (U8-1); Generic Part Number: MAX7501; PartNumber: MAX7501MUA; Alarm Output: Overt; Functions: Standalone Thermostat; Interface: 2-Wire/I2C/SMBus; Multi Droppable: Yes; Parasite Pwr.: No; DatasheetVersion: Rev. 4; PackageVersion: Rev. L, 08/2009; PackageReference: U8-1; PackageDescription: 8-Pin Micro-MAX, Thin Shrink Small-Outline (U8-1), Body 3 x 3 mm, Pitch 0.65mm; Supplier 1: Mouser; Supplier Part Number 1: N/A; Mounting Technology: Surface Mount; Code_JEDEC: MO-187; ComponentLink1Description: Manufacturer URL; ComponentLink1URL: http://www.maximintegrated.com/; ComponentLink2Description: Datasheet; ComponentLink2URL: http://datasheets.maximintegrated.com/en/ds/MAX7500-MAX7504.pdf; ComponentLink3Description: Package Specification; ComponentLink3URL: http://pdfserv.maximintegrated.com/package_dwgs/21-0036.PDF
footprint MAXM-U8-1_N (SOP, 8-Leads, Body 3x3mm, Pitch 0.65mm, IPC Medium Density)
footprint MAXM-U8-1_L (SOP, 8-Leads, Body 3x3mm, Pitch 0.65mm, IPC High Density)
footprint MAXM-U8-1_M (SOP, 8-Leads, Body 3x3mm, Pitch 0.65mm, IPC Low Density)
pins: 1 SDA (io) "Serial Data Input/Output Line. Open drain. Connect SDA to a pullup resistor.", 2 SCL (in) "Serial Data Clock Input. Open drain. Connect SCL to a pullup resistor.", 3 OS (oc) "Overtemperature Shutdown Output. Open drain. Connect OS to a pullup resistor.", 4 GND (power) "Ground", 5 ~{RESET} (in) "Active-Low Reset Input. Pull R\E\S\E\T\ low for longer than the minimum reset pulse width to reset the I2C bus and all internal registers to their POR values.", 6 A1 (in) "2-Wire Interface Address Input. Connect A1 to GND or +VS to set the desired I2C bus address. Do not leave unconnected (see Table 1).", 7 A0 (in) "2-Wire Interface Address Input. Connect A0 to GND or +VS to set the desired I2C bus address. Do not leave unconnected (see Table 1).", 8 +VS (power) "Positive Supply Voltage Input. Bypass to GND with a 0.1uF bypass capacitor."

## MAX7501MUA+
designator U?
Digital Temperature Sensor and Thermal Watchdog, 11 Bits Temperature Resolution, -55 to 125 degC, 8-Pin SOP (U8+1), Pb-Free; Generic Part Number: MAX7501; PartNumber: MAX7501MUA+; Alarm Output: Overt; Functions: Standalone Thermostat; Interface: 2-Wire/I2C/SMBus; Multi Droppable: Yes; Parasite Pwr.: No; DatasheetVersion: Rev. 4; PackageVersion: Rev. L, 08/2009; PackageReference: U8+1; PackageDescription: 8-Pin Micro-MAX, Thin Shrink Small-Outline (U8+1), Body 3 x 3 mm, Pitch 0.65 mm; Supplier 1: Digi-Key; Supplier Part Number 1: MAX7501MUA+-ND; Supplier 2: Mouser; Supplier Part Number 2: 700-MAX7501MUA; Mounting Technology: Surface Mount; Code_JEDEC: MO-187; ComponentLink1Description: Manufacturer URL; ComponentLink1URL: http://www.maximintegrated.com/; ComponentLink2Description: Datasheet; ComponentLink2URL: http://datasheets.maximintegrated.com/en/ds/MAX7500-MAX7504.pdf; ComponentLink3Description: Package Specification; ComponentLink3URL: http://pdfserv.maximintegrated.com/package_dwgs/21-0036.PDF
footprint MAXM-U8+1_N (SOP, 8-Leads, Body 3x3mm, Pitch 0.65mm, IPC Medium Density)
footprint MAXM-U8+1_L (SOP, 8-Leads, Body 3x3mm, Pitch 0.65mm, IPC High Density)
footprint MAXM-U8+1_M (SOP, 8-Leads, Body 3x3mm, Pitch 0.65mm, IPC Low Density)
pins: 1 SDA (io) "Serial Data Input/Output Line. Open drain. Connect SDA to a pullup resistor.", 2 SCL (in) "Serial Data Clock Input. Open drain. Connect SCL to a pullup resistor.", 3 OS (oc) "Overtemperature Shutdown Output. Open drain. Connect OS to a pullup resistor.", 4 GND (power) "Ground", 5 ~{RESET} (in) "Active-Low Reset Input. Pull R\E\S\E\T\ low for longer than the minimum reset pulse width to reset the I2C bus and all internal registers to their POR values.", 6 A1 (in) "2-Wire Interface Address Input. Connect A1 to GND or +VS to set the desired I2C bus address. Do not leave unconnected (see Table 1).", 7 A0 (in) "2-Wire Interface Address Input. Connect A0 to GND or +VS to set the desired I2C bus address. Do not leave unconnected (see Table 1).", 8 +VS (power) "Positive Supply Voltage Input. Bypass to GND with a 0.1uF bypass capacitor."

## MAX7501MUA+T
designator U?
Digital Temperature Sensor and Thermal Watchdog, 11 Bits Temperature Resolution, -55 to 125 degC, 8-Pin SOP (U8+1), Pb-Free, Tape and Reel; Generic Part Number: MAX7501; PartNumber: MAX7501MUA+T; Alarm Output: Overt; Functions: Standalone Thermostat; Interface: 2-Wire/I2C/SMBus; Multi Droppable: Yes; Parasite Pwr.: No; DatasheetVersion: Rev. 4; PackageVersion: Rev. L, 08/2009; PackageReference: U8+1; PackageDescription: 8-Pin Micro-MAX, Thin Shrink Small-Outline (U8+1), Body 3 x 3 mm, Pitch 0.65 mm; Supplier 1: Digi-Key; Supplier Part Number 1: MAX7501MUA+T-ND; Supplier 2: Mouser; Supplier Part Number 2: 700-MAX7501MUAT; Packing: Tape and Reel; Mounting Technology: Surface Mount; Code_JEDEC: MO-187; ComponentLink1Description: Manufacturer URL; ComponentLink1URL: http://www.maximintegrated.com/; ComponentLink2Description: Datasheet; ComponentLink2URL: http://datasheets.maximintegrated.com/en/ds/MAX7500-MAX7504.pdf; ComponentLink3Description: Package Specification; ComponentLink3URL: http://pdfserv.maximintegrated.com/package_dwgs/21-0036.PDF
footprint MAXM-U8+1_N (SOP, 8-Leads, Body 3x3mm, Pitch 0.65mm, IPC Medium Density)
footprint MAXM-U8+1_L (SOP, 8-Leads, Body 3x3mm, Pitch 0.65mm, IPC High Density)
footprint MAXM-U8+1_M (SOP, 8-Leads, Body 3x3mm, Pitch 0.65mm, IPC Low Density)
pins: 1 SDA (io) "Serial Data Input/Output Line. Open drain. Connect SDA to a pullup resistor.", 2 SCL (in) "Serial Data Clock Input. Open drain. Connect SCL to a pullup resistor.", 3 OS (oc) "Overtemperature Shutdown Output. Open drain. Connect OS to a pullup resistor.", 4 GND (power) "Ground", 5 ~{RESET} (in) "Active-Low Reset Input. Pull R\E\S\E\T\ low for longer than the minimum reset pulse width to reset the I2C bus and all internal registers to their POR values.", 6 A1 (in) "2-Wire Interface Address Input. Connect A1 to GND or +VS to set the desired I2C bus address. Do not leave unconnected (see Table 1).", 7 A0 (in) "2-Wire Interface Address Input. Connect A0 to GND or +VS to set the desired I2C bus address. Do not leave unconnected (see Table 1).", 8 +VS (power) "Positive Supply Voltage Input. Bypass to GND with a 0.1uF bypass capacitor."

## MAX7501MUA-T
designator U?
Digital Temperature Sensor and Thermal Watchdog, 11 Bits Temperature Resolution, -55 to 125 degC, 8-Pin SOP (U8-1), Tape and Reel; Generic Part Number: MAX7501; PartNumber: MAX7501MUA-T; Alarm Output: Overt; Functions: Standalone Thermostat; Interface: 2-Wire/I2C/SMBus; Multi Droppable: Yes; Parasite Pwr.: No; DatasheetVersion: Rev. 4; PackageVersion: Rev. L, 08/2009; PackageReference: U8-1; PackageDescription: 8-Pin Micro-MAX, Thin Shrink Small-Outline (U8-1), Body 3 x 3 mm, Pitch 0.65mm; Supplier 1: Mouser; Supplier Part Number 1: N/A; Packing: Tape and Reel; Mounting Technology: Surface Mount; Code_JEDEC: MO-187; ComponentLink1Description: Manufacturer URL; ComponentLink1URL: http://www.maximintegrated.com/; ComponentLink2Description: Datasheet; ComponentLink2URL: http://datasheets.maximintegrated.com/en/ds/MAX7500-MAX7504.pdf; ComponentLink3Description: Package Specification; ComponentLink3URL: http://pdfserv.maximintegrated.com/package_dwgs/21-0036.PDF
footprint MAXM-U8-1_N (SOP, 8-Leads, Body 3x3mm, Pitch 0.65mm, IPC Medium Density)
footprint MAXM-U8-1_L (SOP, 8-Leads, Body 3x3mm, Pitch 0.65mm, IPC High Density)
footprint MAXM-U8-1_M (SOP, 8-Leads, Body 3x3mm, Pitch 0.65mm, IPC Low Density)
pins: 1 SDA (io) "Serial Data Input/Output Line. Open drain. Connect SDA to a pullup resistor.", 2 SCL (in) "Serial Data Clock Input. Open drain. Connect SCL to a pullup resistor.", 3 OS (oc) "Overtemperature Shutdown Output. Open drain. Connect OS to a pullup resistor.", 4 GND (power) "Ground", 5 ~{RESET} (in) "Active-Low Reset Input. Pull R\E\S\E\T\ low for longer than the minimum reset pulse width to reset the I2C bus and all internal registers to their POR values.", 6 A1 (in) "2-Wire Interface Address Input. Connect A1 to GND or +VS to set the desired I2C bus address. Do not leave unconnected (see Table 1).", 7 A0 (in) "2-Wire Interface Address Input. Connect A0 to GND or +VS to set the desired I2C bus address. Do not leave unconnected (see Table 1).", 8 +VS (power) "Positive Supply Voltage Input. Bypass to GND with a 0.1uF bypass capacitor."

## MAX7502MSA
designator U?
Digital Temperature Sensor prevents bus lock up, 11 Bits Temperature Resolution, -55 to 125 degC, 8-Pin SOIC (S8-2); Generic Part Number: MAX7502; PartNumber: MAX7502MSA; Alarm Output: Overt; Functions: Standalone Thermostat; Interface: 2-Wire/I2C/SMBus; Multi Droppable: Yes; Parasite Pwr.: No; DatasheetVersion: Rev. 4; PackageVersion: Rev. D, 10/2012; PackageReference: S8-2; PackageDescription: 8-Pin Small-Outline IC, Narrow (0.15in) (S8-2), Body 4.90 x 3.90 mm, Pitch 1.27 mm; Supplier 1: Mouser; Supplier Part Number 1: N/A; Mounting Technology: Surface Mount; Code_JEDEC: MS012; ComponentLink1Description: Manufacturer URL; ComponentLink1URL: http://www.maximintegrated.com/; ComponentLink2Description: Datasheet; ComponentLink2URL: http://datasheets.maximintegrated.com/en/ds/MAX7500-MAX7504.pdf; ComponentLink3Description: Package Specification; ComponentLink3URL: http://pdfserv.maximintegrated.com/package_dwgs/21-0041.PDF
footprint MAXM-S8-2_N (SOIC, 8-Leads, Body 4.90x3.90mm, Pitch 1.27mm, IPC Medium Density)
footprint MAXM-S8-2_L (SOIC, 8-Leads, Body 4.90x3.90mm, Pitch 1.27mm, IPC High Density)
footprint MAXM-S8-2_M (SOIC, 8-Leads, Body 4.90x3.90mm, Pitch 1.27mm, IPC Low Density)
pins: 1 SDA (io) "Serial Data Input/Output Line. Open drain. Connect SDA to a pullup resistor.", 2 SCL (in) "Serial Data Clock Input. Open drain. Connect SCL to a pullup resistor.", 3 OS (oc) "Overtemperature Shutdown Output. Open drain. Connect OS to a pullup resistor.", 4 GND (power) "Ground", 5 ~{RESET} (in) "Active-Low Reset Input. Pull R\E\S\E\T\ low for longer than the minimum reset pulse width to reset the I2C bus and all internal registers to their POR values.", 6 A1 (in) "2-Wire Interface Address Input. Connect A1 to GND or +VS to set the desired I2C bus address. Do not leave unconnected (see Table 1).", 7 A0 (in) "2-Wire Interface Address Input. Connect A0 to GND or +VS to set the desired I2C bus address. Do not leave unconnected (see Table 1).", 8 +VS (power) "Positive Supply Voltage Input. Bypass to GND with a 0.1uF bypass capacitor."